# EAGLE library part S8P (library connect)
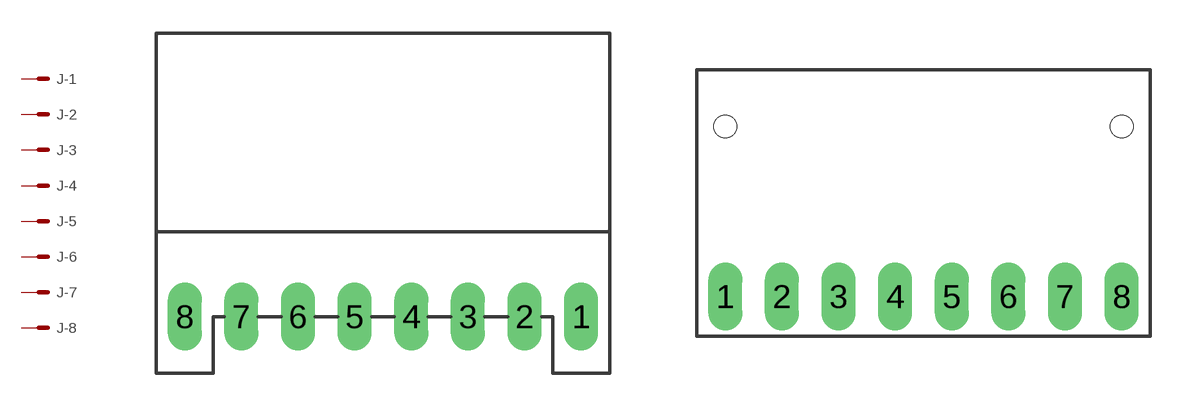
[diagram p1: symbol with the pads of 8P-ML; footprints 8P-ML, 8P-FL]

Designator prefix J; gates -1=M -2=M -3=M -4=M -5=M -6=M -7=M -8=M

## S8P-ML  [8P-ML]
1  -1:S  pas
2  -2:S  pas
3  -3:S  pas
4  -4:S  pas
5  -5:S  pas
6  -6:S  pas
7  -7:S  pas
8  -8:S  pas

## S8P-FL  [8P-FL]
Pads as for 8P-ML

## S8P-L  [8P-L]
Pads as for 8P-ML

## S8P-S  [8P-S]
Pads as for 8P-ML

## Footprint 8P-ML (pad centres in mm)
drill 1.016 pad 1.422 long: 1 8.89,0; 2 6.35,0; 3 3.81,0; 4 1.27,0; 5 -1.27,0; 6 -3.81,0; 7 -6.35,0; 8 -8.89,0

## Footprint 8P-FL (pad centres in mm)
drill 1.016 pad 1.422 long: 1 -8.89,0; 2 -6.35,0; 3 -3.81,0; 4 -1.27,0; 5 1.27,0; 6 3.81,0; 7 6.35,0; 8 8.89,0
hole 1.016 at -8.89,7.62
hole 1.016 at 8.89,7.62

## Footprint 8P-L (pad centres in mm)
drill 0.813 pad 1.422 long: 1 -8.89,0; 2 -6.35,0; 3 -3.81,0; 4 -1.27,0; 5 1.27,0; 6 3.81,0; 7 6.35,0; 8 8.89,0

## Footprint 8P-S (pad centres in mm)
drill 0.61 pad 1.422 long: 1 -8.89,0; 2 -6.35,0; 3 -3.81,0; 4 -1.27,0; 5 1.27,0; 6 3.81,0; 7 6.35,0; 8 8.89,0